# Altium schematic symbol library PDU.SchLib: 91 symbols (part 8 of 11)
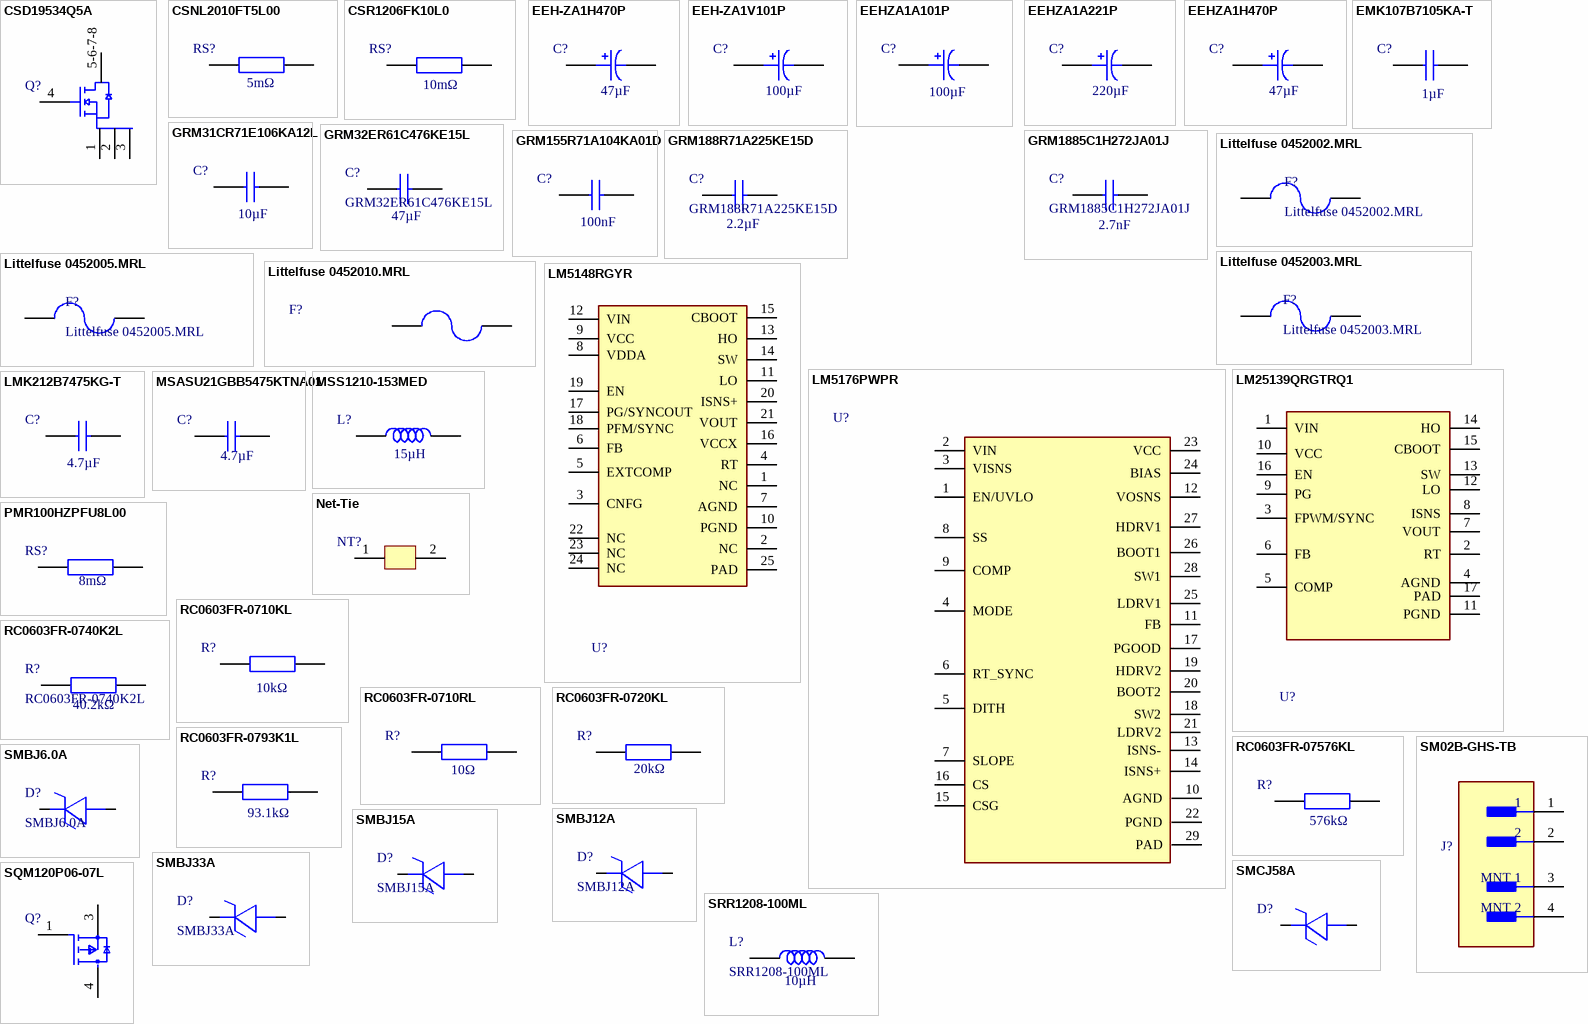
[diagram p9: symbols CSD19534Q5A to SRR1208-100ML]

## GRM1885C1H272JA01J
designator C?  value 2.7nF
0603 2.7 nF 50 V ±5% Tolerance C0G SMT Multilayer Ceramic Capacitor; Manufacturer: Murata; Manufacturer Lifecycle Status: IN PRODUCTION; Temperature Coefficient: 30ppm/°C; Voltage Rating: 50V; Supplier: Arrow Electronics; Supplier Part Number: GRM1885C1H272JA01J; Manufacturer Part Number: GRM1885C1H272JA01J; RoHS: Compliant; Category: Ceramic Capacitors; Stock: 5058; Pricing: 1=0,004, 10=0,0037, 25=0,0033, 100=0,003, 250=0,0027, 500=0,0023, 1000=0,002, 3000=0,0017 (USD); Case/Package: 0603; Case Code (Imperial): 0603; Case Code (Metric): 1608; Depth: 800µm; Dielectric: C0G; Dielectric Material: Ceramic; Export Control Classification Number (ECCN) Code: EAR99; Height: 800µm; Harmonized Tariff Schedule (HTS) Code: 8532.24.00.20; Introduction Date: 2004-09-04; Lead Free: Lead Free; Length: 1.6mm; Lifecycle Status: Production; Material: Ceramic; Max Operating Temperature: 125°C; Min Operating Temperature: -55°C; Mounting Technology: Surface Mount; Number of Terminals: 2; Packaging: Tape & Reel; Radiation Hardening: No; REACH SVHC: Yes; Schedule B: 8532240020, 8532240020|8532240020|8532240020|8532240020|8532240020; Termination: SMD/SMT; Thickness: 800µm; Tolerance: 5%; Voltage Rating (DC): 50V; Width: 800µm; ComponentLink1URL: https://datasheet.octopart.com:443/GRM1885C1H272JA01J-Murata-datasheet-8328230.pdf?src-supplier=Future+Electronics; ComponentLink1Description: https://datasheet.octopart.com:443/GRM1885C1H272JA01J-Murata-datasheet-8328230.pdf?src-supplier=Future+Electronics; ComponentLink2URL: https://datasheet.octopart.com:443/GRM1885C1H272JA01J-Murata-datasheet-22122223.pdf?src-supplier=Future+Electronics; ComponentLink2Description: https://datasheet.octopart.com:443/GRM1885C1H272JA01J-Murata-datasheet-22122223.pdf?src-supplier=Future+Electronics; ComponentLink3URL: https://datasheet.octopart.com:443/GRM1885C1H272JA01J-Murata-datasheet-26530162.pdf?src-supplier=Future+Electronics; ComponentLink3Description: https://datasheet.octopart.com:443/GRM1885C1H272JA01J-Murata-datasheet-26530162.pdf?src-supplier=Future+Electronics; ComponentLink4URL: https://datasheet.octopart.com:443/GRM1885C1H272JA01J-Murata-datasheet-141274271.pdf?src-supplier=Ciiva; ComponentLink4Description: https://datasheet.octopart.com:443/GRM1885C1H272JA01J-Murata-datasheet-141274271.pdf?src-supplier=Ciiva; ComponentLink5URL: https://datasheet.octopart.com:443/GRM1885C1H272JA01J-Murata-datasheet-140696475.pdf?src-supplier=Ciiva; ComponentLink5Description: https://datasheet.octopart.com:443/GRM1885C1H272JA01J-Murata-datasheet-140696475.pdf?src-supplier=Ciiva; ComponentLink6URL: https://datasheet.octopart.com:443/GRM1885C1H272JA01J-Murata-datasheet-138741538.pdf?src-supplier=Ciiva; ComponentLink6Description: https://datasheet.octopart.com:443/GRM1885C1H272JA01J-Murata-datasheet-138741538.pdf?src-supplier=Ciiva; ComponentLink7URL: https://datasheet.octopart.com:443/GRM1885C1H272JA01J-Murata-datasheet-155239085.pdf?src-supplier=Farnell; ComponentLink7Description: https://datasheet.octopart.com:443/GRM1885C1H272JA01J-Murata-datasheet-155239085.pdf?src-supplier=Farnell; ComponentLink8URL: https://datasheet.octopart.com/GRM1885C1H272JA01J-Murata-datasheet-12515295.pdf; ComponentLink8Description: https://datasheet.octopart.com/GRM1885C1H272JA01J-Murata-datasheet-12515295.pdf; ComponentLink9URL: https://datasheet.octopart.com/GRM1885C1H272JA01J-Murata-datasheet-12510076.pdf; ComponentLink9Description: https://datasheet.octopart.com/GRM1885C1H272JA01J-Murata-datasheet-12510076.pdf; ComponentLink10URL: https://datasheet.octopart.com/GRM1885C1H272JA01J-Murata-datasheet-11978611.pdf; ComponentLink10Description: https://datasheet.octopart.com/GRM1885C1H272JA01J-Murata-datasheet-11978611.pdf; ComponentLink11URL: https://datasheet.octopart.com/GRM1885C1H272JA01J-Murata-datasheet-10025737.pdf; ComponentLink11Description: https://datasheet.octopart.com/GRM1885C1H272JA01J-Murata-datasheet-10025737.pdf; ComponentLink12URL: https://datasheet.octopart.com/GRM1885C1H272JA01J-Murata-datasheet-8819587.pdf; ComponentLink12Description: https://datasheet.octopart.com/GRM1885C1H272JA01J-Murata-datasheet-8819587.pdf; ComponentLink13URL: https://datasheet.octopart.com/GRM1885C1H272JA01J-Murata-datasheet-14397128.pdf; ComponentLink13Description: https://datasheet.octopart.com/GRM1885C1H272JA01J-Murata-datasheet-14397128.pdf; ComponentLink14URL: http://sigma.octopart.com:80/reach_statement/Murata-company-16.pdf?src-supplier=Compliance+Statements; ComponentLink14Description: http://sigma.octopart.com:80/reach_statement/Murata-company-16.pdf?src-supplier=Compliance+Statements
footprint CAP_0603 (EMK107B7105KA-T - 06033C104KAT2A - 06035A470JAT2A - CL10C331JB8NNNC - C0603C153J3GACTU - CC0603KRX7R9BB104)
pins: 1, 2

## Littelfuse 0452002.MRL
designator F?
452 Series - NANO2®Slo-Blo®Subminiature Surface Mount Fuse, 2 A, 125 VAC 125 VDC, RoHS; Approvals: CSA, PSE, UL, UR; Body Material: Ceramic; Current Rating: 2A; Ratings: CE, CSA, TUV; Value: 62.5mΩ; Time to Trip: 2ms; Voltage Rating: 125V; Supplier: Farnell; Supplier Part Number: 0452002.MRL; Manufacturer: Littelfuse; Manufacturer Part Number: 0452002.MRL; RoHS: Compliant; Category: Fuses; Stock: 14395; Pricing: 1=2,46, 50=1,56, 100=1,45, 250=1,29, 500=1,24 (EUR); Case/Package: SMD/SMT; China RoHS: Non-Compliant; Contact Plating: Gold; Country of Origin: Philippines; Depth: 2.69mm; Diameter: 2.69mm; Export Control Classification Number (ECCN) Code: EAR99; Fuse Current: 2A; Height: 2.69mm; Housing Material: Ceramic; Harmonized Tariff Schedule (HTS) Code: 8536.10.00.40; Introduction Date: 2005-07-31; Lead Free: Lead Free; Length: 6.1mm; Lifecycle Status: Production; Max Operating Temperature: 125°C; Min Operating Temperature: -55°C; Mounting Technology: Surface Mount; Pins: 2; Radiation Hardening: No; REACH SVHC: No; Terminal Material: Gold; Termination: SMD/SMT; Voltage Rating (AC): 125V; Voltage Rating (DC): 125V; Width: 2.69mm; Working Voltage: 125V; ComponentLink1URL: https://datasheet.octopart.com:443/0452002.MRL-Littelfuse-datasheet-150463550.pdf?src-supplier=IHS; ComponentLink1Description: https://datasheet.octopart.com:443/0452002.MRL-Littelfuse-datasheet-150463550.pdf?src-supplier=IHS; ComponentLink2URL: https://datasheet.octopart.com:443/0452002.MRL-Littelfuse-datasheet-24577142.pdf?src-supplier=Upverter; ComponentLink2Description: https://datasheet.octopart.com:443/0452002.MRL-Littelfuse-datasheet-24577142.pdf?src-supplier=Upverter; ComponentLink3URL: https://datasheet.octopart.com:443/0452002.MRL-Littelfuse-datasheet-4520.pdf?src-supplier=Farnell; ComponentLink3Description: https://datasheet.octopart.com:443/0452002.MRL-Littelfuse-datasheet-4520.pdf?src-supplier=Farnell; ComponentLink4URL: https://datasheet.octopart.com:443/0452002.MRL-Littelfuse-datasheet-65933515.pdf?src-supplier=Farnell; ComponentLink4Description: https://datasheet.octopart.com:443/0452002.MRL-Littelfuse-datasheet-65933515.pdf?src-supplier=Farnell; ComponentLink5URL: https://datasheet.octopart.com:443/0452002.MRL-Littelfuse-datasheet-71421564.pdf?src-supplier=Farnell; ComponentLink5Description: https://datasheet.octopart.com:443/0452002.MRL-Littelfuse-datasheet-71421564.pdf?src-supplier=Farnell; ComponentLink6URL: https://datasheet.octopart.com:443/0452002.MRL-Littelfuse-datasheet-524166.pdf?src-supplier=Farnell; ComponentLink6Description: https://datasheet.octopart.com:443/0452002.MRL-Littelfuse-datasheet-524166.pdf?src-supplier=Farnell; ComponentLink7URL: https://datasheet.octopart.com:443/0452002.MRL-Littelfuse-datasheet-22975140.pdf?src-supplier=Newark; ComponentLink7Description: https://datasheet.octopart.com:443/0452002.MRL-Littelfuse-datasheet-22975140.pdf?src-supplier=Newark; ComponentLink8URL: https://datasheet.octopart.com:443/0452002.MRL-Littelfuse-datasheet-11544861.pdf?src-supplier=Factory+Futures; ComponentLink8Description: https://datasheet.octopart.com:443/0452002.MRL-Littelfuse-datasheet-11544861.pdf?src-supplier=Factory+Futures; ComponentLink9URL: https://datasheet.octopart.com:443/0452002.MRL-Littelfuse-datasheet-8529048.pdf?src-supplier=Factory+Futures; ComponentLink9Description: https://datasheet.octopart.com:443/0452002.MRL-Littelfuse-datasheet-8529048.pdf?src-supplier=Factory+Futures; ComponentLink10URL: https://datasheet.octopart.com:443/0452002.MRL-Littelfuse-datasheet-520781.pdf?src-supplier=TME; ComponentLink10Description: https://datasheet.octopart.com:443/0452002.MRL-Littelfuse-datasheet-520781.pdf?src-supplier=TME; ComponentLink11URL: https://datasheet.octopart.com:443/0452002.MRL-Littelfuse-datasheet-170674127.pdf?src-supplier=JRH+Electronics; ComponentLink11Description: https://datasheet.octopart.com:443/0452002.MRL-Littelfuse-datasheet-170674127.pdf?src-supplier=JRH+Electronics; ComponentLink12URL: https://datasheet.octopart.com:443/0452002.MRL-Littelfuse-datasheet-128569235.pdf?src-supplier=ODG+(Origin+Data+Global); ComponentLink12Description: https://datasheet.octopart.com:443/0452002.MRL-Littelfuse-datasheet-128569235.pdf?src-supplier=ODG+(Origin+Data+Global); ComponentLink13URL: https://datasheet.octopart.com:443/0452002.MRL-Littelfuse-datasheet-41168772.pdf?src-supplier=element14+APAC; ComponentLink13Description: https://datasheet.octopart.com:443/0452002.MRL-Littelfuse-datasheet-41168772.pdf?src-supplier=element14+APAC; ComponentLink14URL: https://datasheet.octopart.com:443/0452002.MRL-Littelfuse-datasheet-183575672.pdf?src-supplier=Sager+Electronics; ComponentLink14Description: https://datasheet.octopart.com:443/0452002.MRL-Littelfuse-datasheet-183575672.pdf?src-supplier=Sager+Electronics; ComponentLink15URL: https://datasheet.octopart.com:443/0452002.MRL-Littelfuse-datasheet-43099221.pdf?src-supplier=RS+(Formerly+Allied+Electronics); ComponentLink15Description: https://datasheet.octopart.com:443/0452002.MRL-Littelfuse-datasheet-43099221.pdf?src-supplier=RS+(Formerly+Allied+Electronics); ComponentLink16URL: https://datasheet.octopart.com:443/0452002.MRL-Littelfuse-datasheet-17291148.pdf?src-supplier=Burklin+Elektronik; ComponentLink16Description: https://datasheet.octopart.com:443/0452002.MRL-Littelfuse-datasheet-17291148.pdf?src-supplier=Burklin+Elektronik
footprint FUSE_2410 (Littelfuse)
pins: 1, 2

## Littelfuse 0452003.MRL
designator F?
Fuse Chip Slow Blow Acting 3A 125V SMD Solder Pad 2410 Ceramic T/R CSA/PSE/UL; Approvals: CSA, PSE, UL, UR; Ratings: CE, CSA, TUV; Value: 34mΩ; Time to Trip: 2ms; Supplier: Farnell; Supplier Part Number: 0452003.MRL; Manufacturer: Littelfuse; Manufacturer Part Number: 0452003.MRL; RoHS: Compliant; Category: Fuses; Stock: 1599; Pricing: 1=2,43, 50=1,54, 100=1,45, 250=1,28, 500=1,24 (EUR); Body Material: Ceramic; Case/Package: SMD/SMT; China RoHS: Non-Compliant; Contact Plating: Gold; Country of Origin: Philippines; Current Rating: 3A; Depth: 2.69mm; Diameter: 2.69mm; Export Control Classification Number (ECCN) Code: EAR99; Fuse Current: 3A; Height: 2.69mm; Housing Material: Ceramic; Harmonized Tariff Schedule (HTS) Code: 8536.10.00.40; Introduction Date: 2005-07-31; Lead Free: Lead Free; Length: 6.1mm; Lifecycle Status: Production; Max Operating Temperature: 125°C; Min Operating Temperature: -55°C; Mounting Technology: Surface Mount; Pins: 2; Radiation Hardening: No; REACH SVHC: No; Terminal Material: Gold; Termination: SMD/SMT; Voltage Rating: 125V; Voltage Rating (AC): 125V; Voltage Rating (DC): 125V; Width: 2.69mm; Working Voltage: 125V; ComponentLink1URL: https://datasheet.octopart.com:443/0452003.MRL-Littelfuse-datasheet-150463550.pdf?src-supplier=IHS; ComponentLink1Description: https://datasheet.octopart.com:443/0452003.MRL-Littelfuse-datasheet-150463550.pdf?src-supplier=IHS; ComponentLink2URL: https://datasheet.octopart.com:443/0452003.MRL-Littelfuse-datasheet-128569235.pdf?src-supplier=ODG+(Origin+Data+Global); ComponentLink2Description: https://datasheet.octopart.com:443/0452003.MRL-Littelfuse-datasheet-128569235.pdf?src-supplier=ODG+(Origin+Data+Global); ComponentLink3URL: https://datasheet.octopart.com:443/0452003.MRL-Littelfuse-datasheet-4520.pdf?src-supplier=Farnell; ComponentLink3Description: https://datasheet.octopart.com:443/0452003.MRL-Littelfuse-datasheet-4520.pdf?src-supplier=Farnell; ComponentLink4URL: https://datasheet.octopart.com:443/0452003.MRL-Littelfuse-datasheet-65933515.pdf?src-supplier=Farnell; ComponentLink4Description: https://datasheet.octopart.com:443/0452003.MRL-Littelfuse-datasheet-65933515.pdf?src-supplier=Farnell; ComponentLink5URL: https://datasheet.octopart.com:443/0452003.MRL-Littelfuse-datasheet-71421564.pdf?src-supplier=Farnell; ComponentLink5Description: https://datasheet.octopart.com:443/0452003.MRL-Littelfuse-datasheet-71421564.pdf?src-supplier=Farnell; ComponentLink6URL: https://datasheet.octopart.com:443/0452003.MRL-Littelfuse-datasheet-524166.pdf?src-supplier=Farnell; ComponentLink6Description: https://datasheet.octopart.com:443/0452003.MRL-Littelfuse-datasheet-524166.pdf?src-supplier=Farnell; ComponentLink7URL: https://datasheet.octopart.com:443/0452003.MRL-Littelfuse-datasheet-22975140.pdf?src-supplier=Newark; ComponentLink7Description: https://datasheet.octopart.com:443/0452003.MRL-Littelfuse-datasheet-22975140.pdf?src-supplier=Newark; ComponentLink8URL: https://datasheet.octopart.com:443/0452003.MRL-Littelfuse-datasheet-520781.pdf?src-supplier=TME; ComponentLink8Description: https://datasheet.octopart.com:443/0452003.MRL-Littelfuse-datasheet-520781.pdf?src-supplier=TME; ComponentLink9URL: https://datasheet.octopart.com:443/0452003.MRL-Littelfuse-datasheet-170674127.pdf?src-supplier=JRH+Electronics; ComponentLink9Description: https://datasheet.octopart.com:443/0452003.MRL-Littelfuse-datasheet-170674127.pdf?src-supplier=JRH+Electronics; ComponentLink10URL: https://datasheet.octopart.com:443/0452003.MRL-Littelfuse-datasheet-24577142.pdf?src-supplier=Future+Electronics; ComponentLink10Description: https://datasheet.octopart.com:443/0452003.MRL-Littelfuse-datasheet-24577142.pdf?src-supplier=Future+Electronics; ComponentLink11URL: https://datasheet.octopart.com:443/0452003.MRL-Littelfuse-datasheet-11544861.pdf?src-supplier=Future+Electronics; ComponentLink11Description: https://datasheet.octopart.com:443/0452003.MRL-Littelfuse-datasheet-11544861.pdf?src-supplier=Future+Electronics; ComponentLink12URL: https://datasheet.octopart.com:443/0452003.MRL-Littelfuse-datasheet-8529048.pdf?src-supplier=Future+Electronics; ComponentLink12Description: https://datasheet.octopart.com:443/0452003.MRL-Littelfuse-datasheet-8529048.pdf?src-supplier=Future+Electronics; ComponentLink13URL: https://datasheet.octopart.com:443/0452003.MRL-Littelfuse-datasheet-41168772.pdf?src-supplier=element14+APAC; ComponentLink13Description: https://datasheet.octopart.com:443/0452003.MRL-Littelfuse-datasheet-41168772.pdf?src-supplier=element14+APAC; ComponentLink14URL: https://datasheet.octopart.com:443/0452003.MRL-Littelfuse-datasheet-183575672.pdf?src-supplier=Sager+Electronics; ComponentLink14Description: https://datasheet.octopart.com:443/0452003.MRL-Littelfuse-datasheet-183575672.pdf?src-supplier=Sager+Electronics; ComponentLink15URL: https://datasheet.octopart.com:443/0452003.MRL-Littelfuse-datasheet-43099221.pdf?src-supplier=RS+(Formerly+Allied+Electronics); ComponentLink15Description: https://datasheet.octopart.com:443/0452003.MRL-Littelfuse-datasheet-43099221.pdf?src-supplier=RS+(Formerly+Allied+Electronics); ComponentLink16URL: https://datasheet.octopart.com:443/0452003.MRL-Littelfuse-datasheet-17291148.pdf?src-supplier=Burklin+Elektronik; ComponentLink16Description: https://datasheet.octopart.com:443/0452003.MRL-Littelfuse-datasheet-17291148.pdf?src-supplier=Burklin+Elektronik
footprint FUSE_2410 (Littelfuse)
pins: 1, 2

## Littelfuse 0452005.MRL
designator F?
452 Series - NANO2®Slo-Blo®Subminiature Surface Mount Fuse, 5 A, 125 VAC 125 VDC, RoHS; Approvals: CSA, PSE, UL, UR; Body Material: Ceramic; Current Rating: 5A; Ratings: CE, CSA, TUV; Value: 13.6mΩ; Time to Trip: 2ms; Voltage Rating: 125V; Supplier: Farnell; Supplier Part Number: 0452005.MRL; Manufacturer: Littelfuse; Manufacturer Part Number: 0452005.MRL; RoHS: Compliant; Category: Fuses; Stock: 649; Pricing: 1=2,43, 50=1,54, 100=1,45, 250=1,28, 500=1,24 (EUR); Case/Package: SMD/SMT; China RoHS: Non-Compliant; Contact Plating: Gold; Country of Origin: Philippines; Depth: 2.69mm; Diameter: 2.69mm; Export Control Classification Number (ECCN) Code: EAR99; Fuse Current: 5A; Height: 2.69mm; Housing Material: Ceramic; Harmonized Tariff Schedule (HTS) Code: 8536.10.00.40; Introduction Date: 2005-07-31; Lead Free: Lead Free; Length: 6.1mm; Lifecycle Status: Production; Max Operating Temperature: 125°C; Min Operating Temperature: -55°C; Mounting Technology: Surface Mount; Pins: 2; Radiation Hardening: No; REACH SVHC: No; Terminal Material: Gold; Termination: SMD/SMT; Voltage Rating (AC): 125V; Voltage Rating (DC): 125V; Width: 2.69mm; ComponentLink1URL: https://datasheet.octopart.com:443/0452005.MRL-Littelfuse-datasheet-150463550.pdf?src-supplier=IHS; ComponentLink1Description: https://datasheet.octopart.com:443/0452005.MRL-Littelfuse-datasheet-150463550.pdf?src-supplier=IHS; ComponentLink2URL: https://datasheet.octopart.com:443/0452005.MRL-Littelfuse-datasheet-24577142.pdf?src-supplier=Upverter; ComponentLink2Description: https://datasheet.octopart.com:443/0452005.MRL-Littelfuse-datasheet-24577142.pdf?src-supplier=Upverter; ComponentLink3URL: https://datasheet.octopart.com:443/0452005.MRL-Littelfuse-datasheet-4520.pdf?src-supplier=Farnell; ComponentLink3Description: https://datasheet.octopart.com:443/0452005.MRL-Littelfuse-datasheet-4520.pdf?src-supplier=Farnell; ComponentLink4URL: https://datasheet.octopart.com:443/0452005.MRL-Littelfuse-datasheet-65933515.pdf?src-supplier=Farnell; ComponentLink4Description: https://datasheet.octopart.com:443/0452005.MRL-Littelfuse-datasheet-65933515.pdf?src-supplier=Farnell; ComponentLink5URL: https://datasheet.octopart.com:443/0452005.MRL-Littelfuse-datasheet-71421564.pdf?src-supplier=Farnell; ComponentLink5Description: https://datasheet.octopart.com:443/0452005.MRL-Littelfuse-datasheet-71421564.pdf?src-supplier=Farnell; ComponentLink6URL: https://datasheet.octopart.com:443/0452005.MRL-Littelfuse-datasheet-520781.pdf?src-supplier=Farnell; ComponentLink6Description: https://datasheet.octopart.com:443/0452005.MRL-Littelfuse-datasheet-520781.pdf?src-supplier=Farnell; ComponentLink7URL: https://datasheet.octopart.com:443/0452005.MRL-Littelfuse-datasheet-524166.pdf?src-supplier=Farnell; ComponentLink7Description: https://datasheet.octopart.com:443/0452005.MRL-Littelfuse-datasheet-524166.pdf?src-supplier=Farnell; ComponentLink8URL: https://datasheet.octopart.com:443/0452005.MRL-Littelfuse-datasheet-22975140.pdf?src-supplier=Newark; ComponentLink8Description: https://datasheet.octopart.com:443/0452005.MRL-Littelfuse-datasheet-22975140.pdf?src-supplier=Newark; ComponentLink9URL: https://datasheet.octopart.com:443/0452005.MRL-Littelfuse-datasheet-170674127.pdf?src-supplier=JRH+Electronics; ComponentLink9Description: https://datasheet.octopart.com:443/0452005.MRL-Littelfuse-datasheet-170674127.pdf?src-supplier=JRH+Electronics; ComponentLink10URL: https://datasheet.octopart.com:443/0452005.MRL-Littelfuse-datasheet-128569235.pdf?src-supplier=ODG+(Origin+Data+Global); ComponentLink10Description: https://datasheet.octopart.com:443/0452005.MRL-Littelfuse-datasheet-128569235.pdf?src-supplier=ODG+(Origin+Data+Global); ComponentLink11URL: https://datasheet.octopart.com:443/0452005.MRL-Littelfuse-datasheet-41168772.pdf?src-supplier=element14+APAC; ComponentLink11Description: https://datasheet.octopart.com:443/0452005.MRL-Littelfuse-datasheet-41168772.pdf?src-supplier=element14+APAC; ComponentLink12URL: https://datasheet.octopart.com:443/0452005.MRL-Littelfuse-datasheet-17291148.pdf?src-supplier=Burklin+Elektronik; ComponentLink12Description: https://datasheet.octopart.com:443/0452005.MRL-Littelfuse-datasheet-17291148.pdf?src-supplier=Burklin+Elektronik; ComponentLink13URL: https://datasheet.octopart.com:443/0452005.MRL-Littelfuse-datasheet-11544861.pdf?src-supplier=TME; ComponentLink13Description: https://datasheet.octopart.com:443/0452005.MRL-Littelfuse-datasheet-11544861.pdf?src-supplier=TME; ComponentLink14URL: https://datasheet.octopart.com:443/0452005.MRL-Littelfuse-datasheet-9634991.pdf?src-supplier=RS+(Formerly+Allied+Electronics); ComponentLink14Description: https://datasheet.octopart.com:443/0452005.MRL-Littelfuse-datasheet-9634991.pdf?src-supplier=RS+(Formerly+Allied+Electronics)
footprint FUSE_2410 (Littelfuse)
pins: 1, 2

## Littelfuse 0452010.MRL
designator F?  (value not drawn)
Electric Fuse, Time Lag Blow, 10A, 72VAC, 60VDC, 50A (IR), Surface Mount, NANO; Ratings: CE, CSA, TUV; Time to Trip: 2ms; Voltage Rating (AC): 72V; Voltage Rating (DC): 60V; Supplier: Farnell; Supplier Part Number: 0452010.MRL; Manufacturer: Littelfuse; Manufacturer Part Number: 0452010.MRL; RoHS: Compliant; Category: Fuses; Stock: 195; Pricing: 1=3,24, 50=2,06, 100=1,9, 250=1,71, 500=1,57, 1000=1,46 (EUR); Current Rating: 10A; Export Control Classification Number (ECCN) Code: EAR99; Height: 2.69mm; Harmonized Tariff Schedule (HTS) Code: 8536.10.00.40; Introduction Date: 2024-06-26; Length: 6.1mm; Lifecycle Status: Production; Max Operating Temperature: 125°C; Min Operating Temperature: -55°C; Mounting Technology: Surface Mount; REACH SVHC: No; ComponentLink1URL: https://datasheet.octopart.com:443/0452010.MRL-Littelfuse-datasheet-183575671.pdf?src-supplier=Sager+Electronics; ComponentLink1Description: https://datasheet.octopart.com:443/0452010.MRL-Littelfuse-datasheet-183575671.pdf?src-supplier=Sager+Electronics
footprint FUSE_2410 (Littelfuse)
pins: 1, 2

## LM5148RGYR
designator U?  (value not drawn)
3.5-V to 80-V, current mode synchronous buck controller 24-VQFN -40 to 125; Manufacturer: Texas Instruments; Manufacturer Lifecycle Status: ACTIVE; Max Duty Cycle: 100%; Max Junction Temperature (Tj): 150°C; Max Supply Voltage: 80V; Min Supply Voltage: 3.5V; Number of Outputs: 1; Output Current: 20A; Supplier: Mouser; Supplier Part Number: 595-LM5148RGYR; Manufacturer Part Number: LM5148RGYR; RoHS: Compliant; Category: Voltage Regulators - Switching; Stock: 7731; Pricing: 1=2,05, 10=1,52, 50=1,38, 100=1,24, 1000=1,09, 10000=1,04 (USD); Case/Package: VQFN; Height: 1mm; Length: 5.5mm; Lifecycle Status: Production; Max Operating Temperature: 125°C; Min Operating Temperature: -40°C; Pins: 24; Thickness: 900µm; Topology: Buck; Width: 3.5mm; ComponentLink1URL: https://octopart.com:443/opatz8j6/c1?t=k5HYukbKpAPwbY-87GrEenTJk9MNAaYavK5OGnMfo5xR5AheUhsW0QrQ__jAagB2G7ifgkNZ9LlbGgmastwPsycv2IuxuliPxyuY95BNxN18afFzmyufWtZk0CSFzD_-00jq0-d0ldnWKwAiLQLikyht430IWlpGJLcfLlqJhvIu1GeJ_Tp_edc5pT3Sfet7s6Qf0iT4HQFeU5M_DhcO5-saEgJOFs4UfDZINtzmQIr06dvlKuFFhuh85D68_nFjCJgw90UJc70QHIKhgZhI_J4VFggVK_UUHlgpmBeKA7mmUM_A-zyQhfTdxUopEqudTy3eaxTTW-bK-OyrTHR1mRCgULgnxMTN1KsRo7XVP9NWwtZL5E64bIOPOiG-shDPM5s02dQ&src-supplier=Texas+Instruments; ComponentLink1Description: https://octopart.com:443/opatz8j6/c1?t=k5HYukbKpAPwbY-87GrEenTJk9MNAaYavK5OGnMfo5xR5AheUhsW0QrQ__jAagB2G7ifgkNZ9LlbGgmastwPsycv2IuxuliPxyuY95BNxN18afFzmyufWtZk0CSFzD_-00jq0-d0ldnWKwAiLQLikyht430IWlpGJLcfLlqJhvIu1GeJ_Tp_edc5pT3Sfet7s6Qf0iT4HQFeU5M_DhcO5-saEgJOFs4UfDZINtzmQIr06dvlKuFFhuh85D68_nFjCJgw90UJc70QHIKhgZhI_J4VFggVK_UUHlgpmBeKA7mmUM_A-zyQhfTdxUopEqudTy3eaxTTW-bK-OyrTHR1mRCgULgnxMTN1KsRo7XVP9NWwtZL5E64bIOPOiG-shDPM5s02dQ&src-supplier=Texas+Instruments; ComponentLink2URL: https://datasheet.octopart.com:443/LM5148RGYR-Texas-Instruments-datasheet-170602647.pdf?src-supplier=Upverter; ComponentLink2Description: https://datasheet.octopart.com:443/LM5148RGYR-Texas-Instruments-datasheet-170602647.pdf?src-supplier=Upverter; ComponentLink3URL: http://sigma.octopart.com:80/reach_statement/Texas-Instruments-company-64.pdf?src-supplier=Compliance+Statements; ComponentLink3Description: http://sigma.octopart.com:80/reach_statement/Texas-Instruments-company-64.pdf?src-supplier=Compliance+Statements; ComponentLink4URL: http://sigma.octopart.com:80/conflict_mineral_statement/Texas-Instruments-company-63.pdf?src-supplier=Compliance+Statements; ComponentLink4Description: http://sigma.octopart.com:80/conflict_mineral_statement/Texas-Instruments-company-63.pdf?src-supplier=Compliance+Statements
footprint VQFN-24 (LM5148RGYR)
pins: 1 NC, 2 NC, 3 CNFG, 4 RT, 5 EXTCOMP, 6 FB, 7 AGND, 8 VDDA, 9 VCC, 10 PGND, 11 LO, 12 VIN, 13 HO, 14 SW, 15 CBOOT, 16 VCCX, 17 PG/SYNCOUT, 18 PFM/SYNC, 19 EN, 20 ISNS+, 21 VOUT, 22 NC, 23 NC, 24 NC, 25 PAD

## LM5176PWPR
designator U?  (value not drawn)
55V wide VIN synchronous 4-switch buck-boost controller 28-HTSSOP -40 to 125; Manufacturer: Texas Instruments; Manufacturer Lifecycle Status: ACTIVE; Supplier: Mouser; Supplier Part Number: 595-LM5176PWPR; Manufacturer Part Number: LM5176PWPR; RoHS: Compliant; Category: Integrated Circuits (ICs); Pricing: 1=7,76, 10=6,01, 50=5,57, 100=5,09, 1000=4,6, 10000=4,49 (USD); Height: 1.2mm; Length: 9.7mm; Lifecycle Status: Production; Max Operating Temperature: 125°C; Min Operating Temperature: -40°C; Pins: 28; Schedule B: 8542390000, 8542390000|8542390000|8542390000|8542390000|8542390000; Thickness: 1mm; Topology: Buck-Boost; Width: 4.4mm; ComponentLink1URL: https://sigma.octopart.com:443/149651771/technical_drawing/Texas-Instruments-LM5176PWPR.pdf?src-supplier=Texas+Instruments; ComponentLink1Description: https://sigma.octopart.com:443/149651771/technical_drawing/Texas-Instruments-LM5176PWPR.pdf?src-supplier=Texas+Instruments; ComponentLink2URL: https://octopart.com:443/opatz8j6/c1?t=VRVCafI7s4bG6Zztb8L5r4sLVycBteGLKy5QNf2tGBRTrExigyXOC3PxYErzrsW-NWfD2akeI0Mwe2lBl-DnnI-aA4uHqNyZ5fJqmZ0gkornEqr1DphlO8x3EFdGiIoRxV-N_ppNlyskWHdhRPH9UFmqZ5vi8bQwXlyuc7Nt_alLaVBSszRnRlwkze-xCxAhCGWBAN-Y4Gck8wVEadC_CYKFUFw2xfWVguqijkFkfTQnnUqPAM6sWVKoaOeIfvvRLiDyuYhKva3w8gyjtartpVG7eUF3NFqkx_slddxatLizdWKM18OUpNkaXntHx7Rl8YrZdbA-8oy12CfJVVs4hKkeON3tTWmjAb9cDMFPN-JuPjzhCn8fsFGdUAdgH2v9CWvG&src-supplier=Texas+Instruments; ComponentLink2Description: https://octopart.com:443/opatz8j6/c1?t=VRVCafI7s4bG6Zztb8L5r4sLVycBteGLKy5QNf2tGBRTrExigyXOC3PxYErzrsW-NWfD2akeI0Mwe2lBl-DnnI-aA4uHqNyZ5fJqmZ0gkornEqr1DphlO8x3EFdGiIoRxV-N_ppNlyskWHdhRPH9UFmqZ5vi8bQwXlyuc7Nt_alLaVBSszRnRlwkze-xCxAhCGWBAN-Y4Gck8wVEadC_CYKFUFw2xfWVguqijkFkfTQnnUqPAM6sWVKoaOeIfvvRLiDyuYhKva3w8gyjtartpVG7eUF3NFqkx_slddxatLizdWKM18OUpNkaXntHx7Rl8YrZdbA-8oy12CfJVVs4hKkeON3tTWmjAb9cDMFPN-JuPjzhCn8fsFGdUAdgH2v9CWvG&src-supplier=Texas+Instruments; ComponentLink3URL: https://sigma.octopart.com:443/49250896/technical_drawing/Texas-Instruments-LM5176PWPR.pdf?src-supplier=Texas+Instruments; ComponentLink3Description: https://sigma.octopart.com:443/49250896/technical_drawing/Texas-Instruments-LM5176PWPR.pdf?src-supplier=Texas+Instruments; ComponentLink4URL: http://sigma.octopart.com:80/reach_statement/Texas-Instruments-company-64.pdf?src-supplier=Compliance+Statements; ComponentLink4Description: http://sigma.octopart.com:80/reach_statement/Texas-Instruments-company-64.pdf?src-supplier=Compliance+Statements; ComponentLink5URL: http://sigma.octopart.com:80/conflict_mineral_statement/Texas-Instruments-company-63.pdf?src-supplier=Compliance+Statements; ComponentLink5Description: http://sigma.octopart.com:80/conflict_mineral_statement/Texas-Instruments-company-63.pdf?src-supplier=Compliance+Statements
footprint 28-HTSSOP (LM5176PWPR -   Buck-Boost Regulator Positive Output Step-Up/Step-Down DC-DC Controller IC 28-HTSSOP)
pins: 1 EN/UVLO, 2 VIN, 3 VISNS, 4 MODE, 5 DITH, 6 RT_SYNC, 7 SLOPE, 8 SS, 9 COMP, 10 AGND, 11 FB, 12 VOSNS, 13 ISNS-, 14 ISNS+, 15 CSG, 16 CS, 17 PGOOD, 18 SW2, 19 HDRV2, 20 BOOT2, 21 LDRV2, 22 PGND, 23 VCC, 24 BIAS, 25 LDRV1, 26 BOOT1, 27 HDRV1, 28 SW1, 29 PAD

## LM25139QRGTRQ1
designator U?  (value not drawn)
Automotive 42V input low-Iq buck controller with advanced spread spectrum for low EMI 16-VQFN -40 to 150; Manufacturer: Texas Instruments; Manufacturer Lifecycle Status: ACTIVE; Supplier: Arrow Electronics; Supplier Part Number: LM25139QRGTRQ1; Manufacturer Part Number: LM25139QRGTRQ1; RoHS: Compliant; Category: Integrated Circuits (ICs); Pricing: 3000=1,4038, 6000=1,3973, 9000=1,3906, 12000=1,384, 15000=1,3772, 21000=1,3704, 24000=1,3635, 30000=1,3565, 75000=1,3494 (USD); Case/Package: VQFN; Height: 1mm; Length: 3mm; Lifecycle Status: Production; Pins: 16; Thickness: 900µm; Width: 3mm; ComponentLink1URL: https://octopart.com:443/opatz8j6/c1?t=xWWGwO3ec4Sx5CX0X2qnIhfOHeHqh3WO1mWCu4fV70Hd-1hWOrNd3lhOLVAWMYEEdzkDMYq8UgUcPu2a5nJWOdgA0b1awjV5RgR9D21gaMlGiLRjb7yDuVOicm1d_02R7igS8Xl7-riSRfD_iig_z43OjN5LLsjZDt-zpIDOeZS1dmRgmlIMnUHEnLRcU50Rs-JpA3b7vouLRhIT49FH8fzbO6qOR_6mRAVC4kh14i2ZohtaykkOFzOvEuXGiEP1bYPJMrSXFUnpstjeZJ5v1PNY2ZRTlMohWo1i0R4TEEEijwc0FwBrv5FRwCkRRvUZM3VTnVJr8q7ERahnvQ1r2dQr48eXvtum-5d3g9rmVpLBhcUjM08_c0KTsN9BfI_8WmgwxHDs6sfT&src-supplier=Texas+Instruments; ComponentLink1Description: https://octopart.com:443/opatz8j6/c1?t=xWWGwO3ec4Sx5CX0X2qnIhfOHeHqh3WO1mWCu4fV70Hd-1hWOrNd3lhOLVAWMYEEdzkDMYq8UgUcPu2a5nJWOdgA0b1awjV5RgR9D21gaMlGiLRjb7yDuVOicm1d_02R7igS8Xl7-riSRfD_iig_z43OjN5LLsjZDt-zpIDOeZS1dmRgmlIMnUHEnLRcU50Rs-JpA3b7vouLRhIT49FH8fzbO6qOR_6mRAVC4kh14i2ZohtaykkOFzOvEuXGiEP1bYPJMrSXFUnpstjeZJ5v1PNY2ZRTlMohWo1i0R4TEEEijwc0FwBrv5FRwCkRRvUZM3VTnVJr8q7ERahnvQ1r2dQr48eXvtum-5d3g9rmVpLBhcUjM08_c0KTsN9BfI_8WmgwxHDs6sfT&src-supplier=Texas+Instruments; ComponentLink2URL: http://sigma.octopart.com:80/reach_statement/Texas-Instruments-company-64.pdf?src-supplier=Compliance+Statements; ComponentLink2Description: http://sigma.octopart.com:80/reach_statement/Texas-Instruments-company-64.pdf?src-supplier=Compliance+Statements; ComponentLink3URL: http://sigma.octopart.com:80/conflict_mineral_statement/Texas-Instruments-company-63.pdf?src-supplier=Compliance+Statements; ComponentLink3Description: http://sigma.octopart.com:80/conflict_mineral_statement/Texas-Instruments-company-63.pdf?src-supplier=Compliance+Statements
footprint 16-VFQFN (LM25139QRGTRQ1)
pins: 1 VIN, 2 RT, 3 FPWM/SYNC, 4 AGND, 5 COMP, 6 FB, 7 VOUT, 8 ISNS, 9 PG, 10 VCC, 11 PGND, 12 LO, 13 SW, 14 HO, 15 CBOOT, 16 EN, 17 PAD

## LMK212B7475KG-T
designator C?  value 4.7µF  (hidden comment: LMK212B7475KG-T)
10V 4.7uF X7R ±10% 0805 Multilayer Ceramic Capacitors MLCC - SMD/SMT ROHS; Manufacturer: TAIYO YUDEN; Manufacturer Package Identifier: 0805 (2012 metric); Supplier: Future Electronics; Supplier Part Number: LMK212B7475KG-T; Manufacturer Part Number: LMK212B7475KG-T; RoHS: Compliant; Category: Ceramic Capacitors; Stock: 486000; Pricing: 3000=0,0271, 9000=0,0264, 15000=0,0261, 30000=0,0257, 60000=0,025 (USD); Case/Package: 0805; Case Code (Imperial): 0805; Case Code (Metric): 2012; Country of Origin: Japan, Mainland China, Malaysia, South Korea; Dielectric: X7R; Dielectric Material: Ceramic; Export Control Classification Number (ECCN) Code: EAR99; Halogen Free: Halogen Free; Height: 1.25mm; Harmonized Tariff Schedule (HTS) Code: 8532.24.00.20; Introduction Date: 2008-08-30; Length: 2mm; Lifecycle Status: Production; LTB Date: 2026-03-31; LTD Date: 2026-03-31; Material: Ceramic; Max Length: 2.1mm; Max Operating Temperature: 125°C; Max Thickness: 1.35mm; Max Width: 1.35mm; Min Length: 1.9mm; Min Operating Temperature: -55°C; Min Thickness: 1.15mm; Min Width: 1.15mm; Mounting Technology: Surface Mount; Pins: 2; Number of Terminals: 2; REACH SVHC: Yes; Schedule B: 8532240020; Termination: SMD/SMT; Thickness: 1.3462mm; Tolerance: 10%; Voltage Rating: 10V; Voltage Rating (DC): 10V; Width: 1.25mm; ComponentLink1URL: https://datasheet.octopart.com:443/LMK212B7475KG-T-Taiyo-Yuden-datasheet-182109618.pdf?src-supplier=IHS; ComponentLink1Description: https://datasheet.octopart.com:443/LMK212B7475KG-T-Taiyo-Yuden-datasheet-182109618.pdf?src-supplier=IHS; ComponentLink2URL: https://datasheet.octopart.com:443/LMK212B7475KG-T-Taiyo-Yuden-datasheet-99833425.pdf?src-supplier=Upverter; ComponentLink2Description: https://datasheet.octopart.com:443/LMK212B7475KG-T-Taiyo-Yuden-datasheet-99833425.pdf?src-supplier=Upverter; ComponentLink3URL: https://datasheet.octopart.com:443/LMK212B7475KG-T-Taiyo-Yuden-datasheet-10851928.pdf?src-supplier=Farnell; ComponentLink3Description: https://datasheet.octopart.com:443/LMK212B7475KG-T-Taiyo-Yuden-datasheet-10851928.pdf?src-supplier=Farnell; ComponentLink4URL: https://datasheet.octopart.com:443/LMK212B7475KG-T-Taiyo-Yuden-datasheet-10254988.pdf?src-supplier=Farnell; ComponentLink4Description: https://datasheet.octopart.com:443/LMK212B7475KG-T-Taiyo-Yuden-datasheet-10254988.pdf?src-supplier=Farnell; ComponentLink5URL: https://datasheet.octopart.com:443/LMK212B7475KG-T-Taiyo-Yuden-datasheet-154807926.pdf?src-supplier=JRH+Electronics; ComponentLink5Description: https://datasheet.octopart.com:443/LMK212B7475KG-T-Taiyo-Yuden-datasheet-154807926.pdf?src-supplier=JRH+Electronics; ComponentLink6URL: https://datasheet.octopart.com:443/LMK212B7475KG-T-Taiyo-Yuden-datasheet-159617013.pdf?src-supplier=Newark; ComponentLink6Description: https://datasheet.octopart.com:443/LMK212B7475KG-T-Taiyo-Yuden-datasheet-159617013.pdf?src-supplier=Newark; ComponentLink7URL: https://datasheet.octopart.com:443/LMK212B7475KG-T-Taiyo-Yuden-datasheet-65850919.pdf?src-supplier=Newark; ComponentLink7Description: https://datasheet.octopart.com:443/LMK212B7475KG-T-Taiyo-Yuden-datasheet-65850919.pdf?src-supplier=Newark; ComponentLink8URL: https://datasheet.octopart.com:443/LMK212B7475KG-T-Taiyo-Yuden-datasheet-8857305.pdf?src-supplier=Newark; ComponentLink8Description: https://datasheet.octopart.com:443/LMK212B7475KG-T-Taiyo-Yuden-datasheet-8857305.pdf?src-supplier=Newark; ComponentLink9URL: https://datasheet.octopart.com:443/LMK212B7475KG-T-Taiyo-Yuden-datasheet-8434558.pdf?src-supplier=Newark; ComponentLink9Description: https://datasheet.octopart.com:443/LMK212B7475KG-T-Taiyo-Yuden-datasheet-8434558.pdf?src-supplier=Newark; ComponentLink10URL: https://datasheet.octopart.com:443/LMK212B7475KG-T-Taiyo-Yuden-datasheet-140424376.pdf?src-supplier=Master+Electronics; ComponentLink10Description: https://datasheet.octopart.com:443/LMK212B7475KG-T-Taiyo-Yuden-datasheet-140424376.pdf?src-supplier=Master+Electronics; ComponentLink11URL: https://datasheet.octopart.com/LMK212B7475KG-T-Taiyo-Yuden-datasheet-13694806.pdf; ComponentLink11Description: https://datasheet.octopart.com/LMK212B7475KG-T-Taiyo-Yuden-datasheet-13694806.pdf; ComponentLink12URL: https://datasheet.octopart.com:443/LMK212B7475KG-T-Taiyo-Yuden-datasheet-11762034.pdf?src-supplier=element14+APAC; ComponentLink12Description: https://datasheet.octopart.com:443/LMK212B7475KG-T-Taiyo-Yuden-datasheet-11762034.pdf?src-supplier=element14+APAC; ComponentLink13URL: https://datasheet.octopart.com:443/LMK212B7475KG-T-Taiyo-Yuden-datasheet-138738940.pdf?src-supplier=Taiyo+Yuden+SCT; ComponentLink13Description: https://datasheet.octopart.com:443/LMK212B7475KG-T-Taiyo-Yuden-datasheet-138738940.pdf?src-supplier=Taiyo+Yuden+SCT; ComponentLink14URL: https://datasheet.octopart.com:443/LMK212B7475KG-T-Taiyo-Yuden-datasheet-99784816.pdf?src-supplier=Future+Electronics; ComponentLink14Description: https://datasheet.octopart.com:443/LMK212B7475KG-T-Taiyo-Yuden-datasheet-99784816.pdf?src-supplier=Future+Electronics; ComponentLink15URL: https://datasheet.octopart.com:443/LMK212B7475KG-T-Taiyo-Yuden-datasheet-99833418.pdf?src-supplier=Future+Electronics; ComponentLink15Description: https://datasheet.octopart.com:443/LMK212B7475KG-T-Taiyo-Yuden-datasheet-99833418.pdf?src-supplier=Future+Electronics; ComponentLink16URL: https://datasheet.octopart.com:443/LMK212B7475KG-T-Taiyo-Yuden-datasheet-62109503.pdf?src-supplier=Electro+Sonic; ComponentLink16Description: https://datasheet.octopart.com:443/LMK212B7475KG-T-Taiyo-Yuden-datasheet-62109503.pdf?src-supplier=Electro+Sonic; ComponentLink17URL: https://datasheet.octopart.com:443/LMK212B7475KG-T-Taiyo-Yuden-datasheet-41181457.pdf?src-supplier=Electro+Sonic; ComponentLink17Description: https://datasheet.octopart.com:443/LMK212B7475KG-T-Taiyo-Yuden-datasheet-41181457.pdf?src-supplier=Electro+Sonic; ComponentLink18URL: https://datasheet.octopart.com:443/LMK212B7475KG-T-Taiyo-Yuden-datasheet-14433612.pdf?src-supplier=Factory+Futures; ComponentLink18Description: https://datasheet.octopart.com:443/LMK212B7475KG-T-Taiyo-Yuden-datasheet-14433612.pdf?src-supplier=Factory+Futures
footprint CAP_0805 (C0805C104M5RACTU - CL21C271JBANNNC - MSASU21GBB5475KTNA01)
pins: 1, 2

## MSASU21GBB5475KTNA01
designator C?  value 4.7µF  (hidden comment: MSASU21GBB5475KTNA01)
Ceramic Capacitor, Multilayer, Ceramic, 50V, 10% +Tol, 10% -Tol, X5R, 15% TC, 4.7uF, Surface Mount, 0805; Manufacturer: TAIYO YUDEN; Supplier: Avnet; Supplier Part Number: MSASU21GBB5475KTNA01; Manufacturer Part Number: MSASU21GBB5475KTNA01; RoHS: Compliant; Category: Ceramic Capacitors; Pricing: 3000=0,06229, 30000=0,05448, 300000=0,05335, 1800000=0,05308, 3600000=0,0528 (USD); Case/Package: 0805; Dielectric Material: Ceramic; Height: 1.25mm; Length: 2mm; Lifecycle Status: Production; Max Operating Temperature: 85°C; Min Operating Temperature: -55°C; Mounting Technology: Surface Mount; Number of Terminals: 2; REACH SVHC: Yes; Voltage Rating (DC): 50V; Width: 1.25mm; ComponentLink1URL: https://datasheet.octopart.com:443/MSASU21GBB5475KTNA01-Taiyo-Yuden-datasheet-182126628.pdf?src-supplier=IHS; ComponentLink1Description: https://datasheet.octopart.com:443/MSASU21GBB5475KTNA01-Taiyo-Yuden-datasheet-182126628.pdf?src-supplier=IHS
footprint CAP_0805 (C0805C104M5RACTU - CL21C271JBANNNC - MSASU21GBB5475KTNA01)
pins: 1, 2

## MSS1210-153MED
designator L?  value 15µH  (hidden comment: MSS1210-153MED)
General Purpose Inductor, 15uH, 20%, 1 Element, Ferrite-Core, SMD, 4848, CHIP, 4747; Manufacturer: Coilcraft; DC Resistance (DCR): 22mΩ; Max Current Rating: 5.7A; Max DC Current: 8.7A; Number of Circuits: 1; Saturation Current: 8.3A; Self Resonant Frequency: 12MHz; Shielding: Shielded; Test Frequency: 100kHz; Supplier: Farnell; Supplier Part Number: MSS1210-153MED; Manufacturer Part Number: MSS1210-153MED; RoHS: Compliant; Category: Fixed Inductors; Stock: 1322; Pricing: 1=4,65, 10=4,42, 25=4,19, 50=3,96, 100=3,11, 300=2,49 (EUR); Case/Package: SMD/SMT; Core Material: Ferrite; Height: 10mm; Inductance Tolerance: 20%; Lead Free: Contains Lead; Length: 12mm; Lifecycle Status: Production; Max Operating Temperature: 85°C; Min Operating Temperature: -40°C; Mounting Technology: Surface Mount; Number of Terminals: 2; Packaging: Cut Tape; Ratings: AEC-Q200; REACH SVHC: Yes; RMS Current (Irms): 8.7A; Termination: SMD/SMT; Tolerance: 20%; Width: 12mm; ComponentLink1URL: https://datasheet.octopart.com:443/MSS1210-153MED-Coilcraft-datasheet-180119303.pdf?src-supplier=IHS; ComponentLink1Description: https://datasheet.octopart.com:443/MSS1210-153MED-Coilcraft-datasheet-180119303.pdf?src-supplier=IHS; ComponentLink2URL: https://datasheet.octopart.com:443/MSS1210-153MED-Coilcraft-datasheet-14354322.pdf?src-supplier=Newark; ComponentLink2Description: https://datasheet.octopart.com:443/MSS1210-153MED-Coilcraft-datasheet-14354322.pdf?src-supplier=Newark; ComponentLink3URL: https://datasheet.octopart.com:443/MSS1210-153MED-Coilcraft-datasheet-17369939.pdf?src-supplier=Coilcraft+Direct; ComponentLink3Description: https://datasheet.octopart.com:443/MSS1210-153MED-Coilcraft-datasheet-17369939.pdf?src-supplier=Coilcraft+Direct
footprint MSS1210 (MSS1210-153MED)
pins: 1, 2

## Net-Tie
designator NT?  (value not drawn)  (net tie, no BOM)
footprint Net-Tie
pins: 1, 2

## PMR100HZPFU8L00
designator RS?  value 8mΩ  (hidden comment: PMR100HZPFU8L00)
Res Current Sense Thick Film 2512 8m Ohm 1% 2W Molded Emboss T/R; Manufacturer: ROHM; Temperature Coefficient: 100ppm/°C; Supplier: Arrow Electronics; Supplier Part Number: PMR100HZPFU8L00; Manufacturer Part Number: PMR100HZPFU8L00; RoHS: Compliant; Category: Chip SMD Resistors; Stock: 5; Pricing: 1=0,0146 (USD); Case/Package: 2512; Height: 320µm; Lead Free: Lead Free; Length: 6.4mm; Lifecycle Status: Production; Max Operating Temperature: 155°C; Min Operating Temperature: -55°C; Mounting Technology: Surface Mount; Number of Terminals: 2; Packaging: Cut Tape; Power Rating: 2W; REACH SVHC: Yes; Schedule B: 8533210045, 8533210045|8533210045, 8533210045|8533210045|8533210045, 8533210045|8533210045|8533210045|8533210045; Tolerance: 1%; Width: 3.2mm; ComponentLink1URL: https://datasheet.octopart.com:443/PMR100HZPFU8L00-ROHM-datasheet-182147691.pdf?src-supplier=IHS; ComponentLink1Description: https://datasheet.octopart.com:443/PMR100HZPFU8L00-ROHM-datasheet-182147691.pdf?src-supplier=IHS; ComponentLink2URL: https://datasheet.octopart.com:443/PMR100HZPFU8L00-Rohm-datasheet-70730905.pdf?src-supplier=Newark; ComponentLink2Description: https://datasheet.octopart.com:443/PMR100HZPFU8L00-Rohm-datasheet-70730905.pdf?src-supplier=Newark; ComponentLink3URL: https://datasheet.octopart.com:443/PMR100HZPFU8L00-Rohm-datasheet-115132289.pdf?src-supplier=Future+Electronics; ComponentLink3Description: https://datasheet.octopart.com:443/PMR100HZPFU8L00-Rohm-datasheet-115132289.pdf?src-supplier=Future+Electronics; ComponentLink4URL: https://datasheet.octopart.com:443/PMR100HZPFU8L00-Rohm-datasheet-79607662.pdf?src-supplier=Future+Electronics; ComponentLink4Description: https://datasheet.octopart.com:443/PMR100HZPFU8L00-Rohm-datasheet-79607662.pdf?src-supplier=Future+Electronics; ComponentLink5URL: https://datasheet.octopart.com:443/PMR100HZPFU8L00-Rohm-datasheet-13297471.pdf?src-supplier=Future+Electronics; ComponentLink5Description: https://datasheet.octopart.com:443/PMR100HZPFU8L00-Rohm-datasheet-13297471.pdf?src-supplier=Future+Electronics; ComponentLink6URL: https://datasheet.octopart.com:443/PMR100HZPFU8L00-Rohm-datasheet-12511488.pdf?src-supplier=Future+Electronics; ComponentLink6Description: https://datasheet.octopart.com:443/PMR100HZPFU8L00-Rohm-datasheet-12511488.pdf?src-supplier=Future+Electronics; ComponentLink7URL: https://datasheet.octopart.com:443/PMR100HZPFU8L00-Rohm-datasheet-12525732.pdf?src-supplier=Future+Electronics; ComponentLink7Description: https://datasheet.octopart.com:443/PMR100HZPFU8L00-Rohm-datasheet-12525732.pdf?src-supplier=Future+Electronics; ComponentLink8URL: https://datasheet.octopart.com:443/PMR100HZPFU8L00-Rohm-datasheet-12543072.pdf?src-supplier=Future+Electronics; ComponentLink8Description: https://datasheet.octopart.com:443/PMR100HZPFU8L00-Rohm-datasheet-12543072.pdf?src-supplier=Future+Electronics
footprint RES_2512 (PMR100HZPFU8L00)
pins: 1, 2